# Altium footprint library PCB - LEADED - SOP - TOSHIBA TSON-8 3.1x3.3 2-3X1S.PcbLib: 1 footprints
Each footprint in its own frame and in the unit in brackets; x right, y up, seen from the top. Pads: shape width x height; smd on the part's side, far side on the other; paste and mask are expansions set on the pad; w line width, h text height; cw(c..) or ccw(c..) is an arc to the next point about the centre after c.
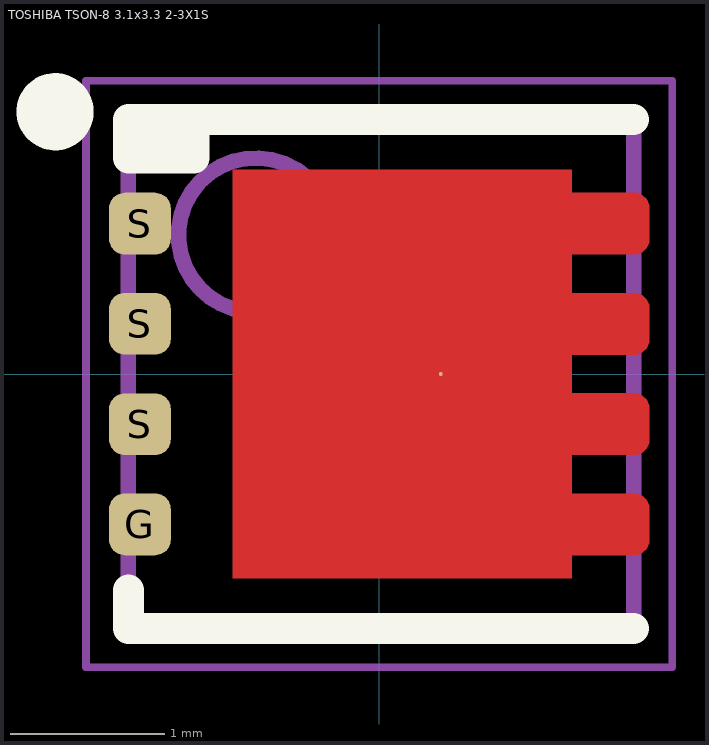
[diagram p0: the footprint, top view; thin cyan lines are the x and y axes]

## TOSHIBA TSON-8 3.1x3.3 2-3X1S [mm] "SON, 8-Leads, Body 3.1x3.30mm, Pitch 0.65mm"
height 0.85
pads (5):
  round 0.025 smd: D(0.4,0)
  rrect50% 0.4x0.4 smd: G(-1.55,-0.975) S(-1.55,-0.325) S(-1.55,0.325) S(-1.55,0.975)
Top Layer:
  region: -0.95,-1.325 1.25,-1.325 1.25,-1.175 1.65,-1.175 1.67,-1.175 1.707,-1.16 1.735,-1.132 1.75,-1.095 1.75,-1.075 1.75,-0.875 1.75,-0.855 1.735,-0.818 1.707,-0.79 1.67,-0.775 1.65,-0.775 1.25,-0.775 1.25,-0.525 1.65,-0.525 1.67,-0.525 1.707,-0.51 1.735,-0.482 1.75,-0.445 1.75,-0.425 1.75,-0.225 1.75,-0.205 1.735,-0.168 1.707,-0.14 1.67,-0.125 1.65,-0.125 1.25,-0.125 1.25,0.125 1.65,0.125 1.67,0.125 1.707,0.14 1.735,0.168 1.75,0.205 1.75,0.225 1.75,0.425 1.75,0.445 1.735,0.482 1.707,0.51 1.67,0.525 1.65,0.525 1.25,0.525 1.25,0.775 1.65,0.775 1.67,0.775 1.707,0.79 1.735,0.818 1.75,0.855 1.75,0.875 1.75,1.075 1.75,1.095 1.735,1.132 1.707,1.16 1.67,1.175 1.65,1.175 1.25,1.175 1.25,1.325 -0.95,1.325
Top Overlay:
  circle w0.25: c-2.1,1.7 r0.125
  rectangle: -1.625,1.4 -1.2,1.65
  lines w0.2: -1.625,-1.4 -1.625,-1.65 1.65,-1.65 ; -1.2,1.6 -1.2,1.4 -1.625,1.4 -1.625,1.65 1.65,1.65
Mechanical 13:
  circle w0.1: c-0.8,0.9 r0.5
  lines w0.1: -1.625,-1.65 1.65,-1.65 1.65,1.65 -1.625,1.65 -1.625,-1.65
Mechanical 15:
  lines w0.05: -1.9,-1.9 -1.9,1.9 1.9,1.9 1.9,-1.9 -1.9,-1.9
  lines w0.1: -0.5,0 0.5,0 ; 0,-0.5 0,0.5
3D body "TOSHIBA - TSON-8 3.1x3.3 2-3X1S.step": height 0.9, standoff 0, extent -1.65,-1.65 1.65,1.65